# Altium integrated library RFM95W-915S2.IntLib: 1 symbol
Pins are listed as number, name and electrical type; pins without a type are passive.

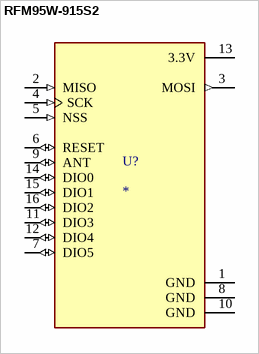
[diagram p0: symbol RFM95W-915S2]

## RFM95W-915S2
designator U?
RFM95(W) - Low Power Long Range Transceiver Module V1.0; MP: RFM95W-915S2; Availability: Unavailable; Value: *; Package: None; Price: None
footprint XCVR_RFM95W-915S2
pins: 1 GND (power), 2 MISO (in), 3 MOSI (out), 4 SCK (in), 5 NSS (in), 6 RESET (io), 7 DIO5 (io), 8 GND (power), 9 ANT (io), 10 GND (power), 11 DIO3 (io), 12 DIO4 (io), 13 3.3V (power), 14 DIO0 (io), 15 DIO1 (io), 16 DIO2 (io)